# Altium schematic symbol library main_schlib.SchLib: 7 symbols
Pins are listed as number, name and electrical type; pins without a type are passive.

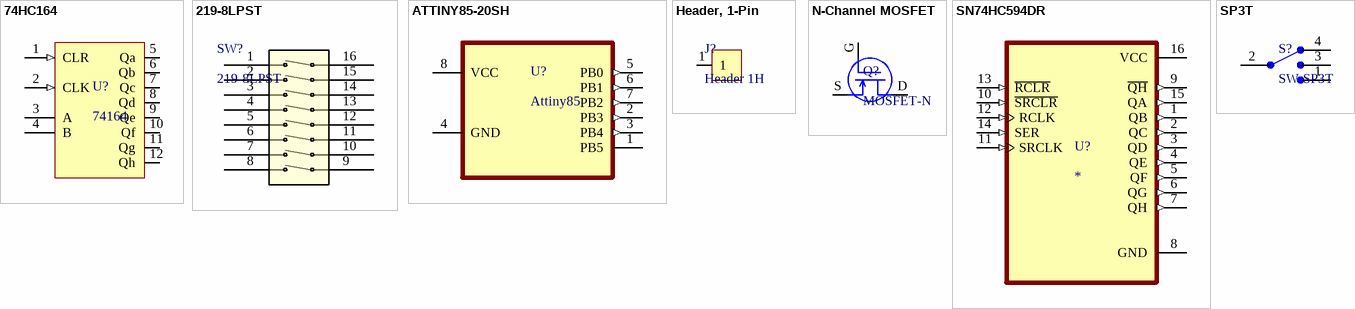
[diagram p0: symbols 74HC164 to SP3T]

## 74HC164
designator U?, comment 74164
8-Bit Shift Register
pins: 1 CLR (in), 2 CLK (in), 3 A, 4 B, 5 Qa, 6 Qb, 7 Qc, 8 Qd, 9 Qe, 10 Qf, 11 Qg, 12 Qh

## 219-8LPST
designator SW?
No Description Available; Mfr_Name: CTS Components; Copyright: Copyright (C) 2022 Ultra Librarian. All rights reserved.; Manufacturer_Part_Number: 219-8LPST; Digi-Key_Part_Number_1: CT2198LPST-ND; RefDes: RefDes; Type: DEV
footprint 219-8LPST_CTS
pins: 1, 2, 3, 4, 5, 6, 7, 8, 9, 10, 11, 12, 13, 14, 15, 16

## ATTINY85-20SH
designator U?, comment Attiny85
AVR ATtiny Microcontroller IC 8-Bit 20MHz 8KB _4K x 16_ FLASH 8-SOIC; MP: ATTINY85-20SH; MF: Microchip; Availability: Unavailable; SnapEDA_Link: https://www.snapeda.com/parts/ATTINY85-20SH/Microchip/view-part/641442/?ref=snap; Value: *; Price: None; Package: SOIC-8 Microchip
footprint SOIC127P798X216-8N
pins: 1 PB5, 2 PB3 (out), 3 PB4 (out), 4 GND, 5 PB0 (out), 6 PB1 (out), 7 PB2 (out), 8 VCC (power)

## Header, 1-Pin
designator J?, comment Header 1H
pins: 1

## N-Channel MOSFET
designator Q?, comment MOSFET-N
Misc. N-Channel MOSFET schematic symbol.
pins: D, G, S

## SN74HC594DR
designator U?
MP: SN74HC594DR; Package: None; Price: None; Value: *; Availability: Unavailable
footprint SOIC127P600X175-16N
pins: 1 QB (out), 2 QC (out), 3 QD (out), 4 QE (out), 5 QF (out), 6 QG (out), 7 QH (out), 8 GND (power), 9 ~{QH} (out), 10 ~{SRCLR} (in), 11 SRCLK (in), 12 RCLK (in), 13 ~{RCLR} (in), 14 SER (in), 15 QA (out), 16 VCC (power)

## SP3T
designator S?, comment SW-SP3T
SP3T Subminiature Toggle Switch, Right Angle Mounting, Vertical Actuation; MP: PCM13SMTR; MF: C&K; Value: *; SnapEDA_Link: https://www.snapeda.com/parts/PCM13SMTR/C%26K/view-part/392684/?ref=snap; Availability: Unavailable; Package: None; Price: None
footprint SW_PCM13SMTR
pins: 1, 2, 3, 4